# Altium footprint library BGA-143.PcbLib: 1 footprints
Each footprint in its own frame and in the unit in brackets; x right, y up, seen from the top. Pads: shape width x height; smd on the part's side, far side on the other; paste and mask are expansions set on the pad; w line width, h text height; cw(c..) or ccw(c..) is an arc to the next point about the centre after c.
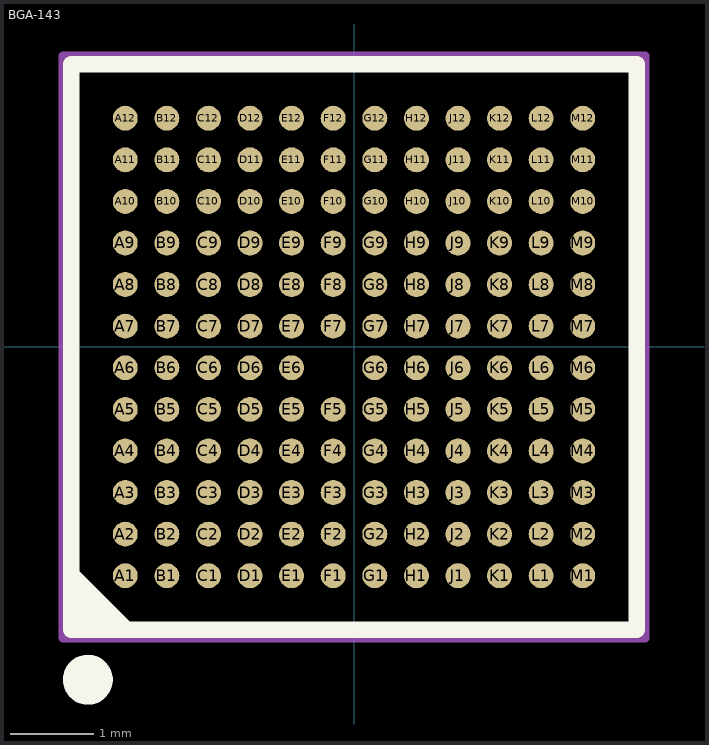
[diagram p0: the footprint, top view; thin cyan lines are the x and y axes]

## BGA-143 [mm]
pads (143):
  round 0.3 smd mask+0.051: A1(-2.75,-2.75) A2(-2.75,-2.25) A3(-2.75,-1.75) A4(-2.75,-1.25) A5(-2.75,-0.75) A6(-2.75,-0.25) A7(-2.75,0.25) A8(-2.75,0.75) A9(-2.75,1.25) A10(-2.75,1.75) A11(-2.75,2.25) A12(-2.75,2.75) B1(-2.25,-2.75) B2(-2.25,-2.25) B3(-2.25,-1.75) B4(-2.25,-1.25) B5(-2.25,-0.75) B6(-2.25,-0.25) B7(-2.25,0.25) B8(-2.25,0.75) B9(-2.25,1.25) B10(-2.25,1.75) B11(-2.25,2.25) B12(-2.25,2.75) C1(-1.75,-2.75) C2(-1.75,-2.25) C3(-1.75,-1.75) C4(-1.75,-1.25) C5(-1.75,-0.75) C6(-1.75,-0.25) C7(-1.75,0.25) C8(-1.75,0.75) C9(-1.75,1.25) C10(-1.75,1.75) C11(-1.75,2.25) C12(-1.75,2.75) D1(-1.25,-2.75) D2(-1.25,-2.25) D3(-1.25,-1.75) D4(-1.25,-1.25) D5(-1.25,-0.75) D6(-1.25,-0.25) D7(-1.25,0.25) D8(-1.25,0.75) D9(-1.25,1.25) D10(-1.25,1.75) D11(-1.25,2.25) D12(-1.25,2.75) E1(-0.75,-2.75) E2(-0.75,-2.25) E3(-0.75,-1.75) E4(-0.75,-1.25) E5(-0.75,-0.75) E6(-0.75,-0.25) E7(-0.75,0.25) E8(-0.75,0.75) E9(-0.75,1.25) E10(-0.75,1.75) E11(-0.75,2.25) E12(-0.75,2.75) F1(-0.25,-2.75) F2(-0.25,-2.25) F3(-0.25,-1.75) F4(-0.25,-1.25) F5(-0.25,-0.75) F7(-0.25,0.25) F8(-0.25,0.75) F9(-0.25,1.25) F10(-0.25,1.75) F11(-0.25,2.25) F12(-0.25,2.75) G1(0.25,-2.75) G2(0.25,-2.25) G3(0.25,-1.75) G4(0.25,-1.25) G5(0.25,-0.75) G6(0.25,-0.25) G7(0.25,0.25) G8(0.25,0.75) G9(0.25,1.25) G10(0.25,1.75) G11(0.25,2.25) G12(0.25,2.75) H1(0.75,-2.75) H2(0.75,-2.25) H3(0.75,-1.75) H4(0.75,-1.25) H5(0.75,-0.75) H6(0.75,-0.25) H7(0.75,0.25) H8(0.75,0.75) H9(0.75,1.25) H10(0.75,1.75) H11(0.75,2.25) H12(0.75,2.75) J1(1.25,-2.75) J2(1.25,-2.25) J3(1.25,-1.75) J4(1.25,-1.25) J5(1.25,-0.75) J6(1.25,-0.25) J7(1.25,0.25) J8(1.25,0.75) J9(1.25,1.25) J10(1.25,1.75) J11(1.25,2.25) J12(1.25,2.75) K1(1.75,-2.75) K2(1.75,-2.25) K3(1.75,-1.75) K4(1.75,-1.25) K5(1.75,-0.75) K6(1.75,-0.25) K7(1.75,0.25) K8(1.75,0.75) K9(1.75,1.25) K10(1.75,1.75) K11(1.75,2.25) K12(1.75,2.75) L1(2.25,-2.75) L2(2.25,-2.25) L3(2.25,-1.75) L4(2.25,-1.25) L5(2.25,-0.75) L6(2.25,-0.25) L7(2.25,0.25) L8(2.25,0.75) L9(2.25,1.25) L10(2.25,1.75) L11(2.25,2.25) L12(2.25,2.75) M1(2.75,-2.75) M2(2.75,-2.25) M3(2.75,-1.75) M4(2.75,-1.25) M5(2.75,-0.75) M6(2.75,-0.25) M7(2.75,0.25) M8(2.75,0.75) M9(2.75,1.25) M10(2.75,1.75) M11(2.75,2.25) M12(2.75,2.75)
Top Overlay:
  circle w0.3: c-3.2,-4 r0.15
  region: -3.45,-3.45 -2.55,-3.45 -2.75,-3.25 -3.45,-2.55
  lines w0.2: -3.4,-3.4 3.4,-3.4 3.4,3.4 -3.4,3.4 -3.4,-3.4
Mechanical 13:
  lines w0.1: -3.5,-3.5 -3.5,3.5 3.5,3.5 3.5,-3.5 -3.5,-3.5